# EAGLE library part 10053363-200LF (library ruark2)
64 (Power) Position Female Connector Non Specified - Dual Edge Gold 0.100" (2.54mm) Black
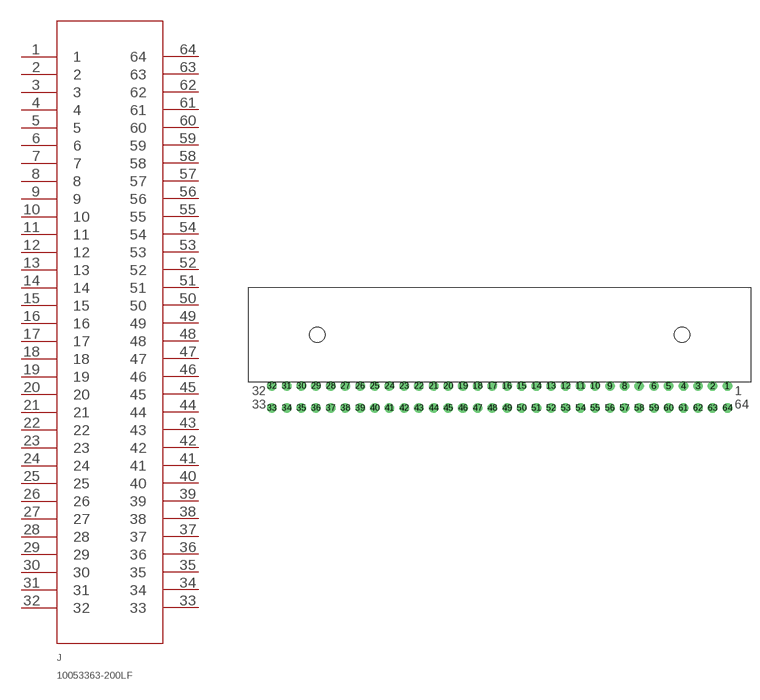
[diagram p97: symbol with the pads of 10053363-200LF; footprint 10053363-200LF]

Designator prefix J

## 10053363-200LF (PARTNO: 609-2861-ND)  [10053363-200LF]
1  1
2  2
3  3
4  4
5  5
6  6
7  7
8  8
9  9
10  10
11  11
12  12
13  13
14  14
15  15
16  16
17  17
18  18
19  19
20  20
21  21
22  22
23  23
24  24
25  25
26  26
27  27
28  28
29  29
30  30
31  31
32  32
33  33
34  34
35  35
36  36
37  37
38  38
39  39
40  40
41  41
42  42
43  43
44  44
45  45
46  46
47  47
48  48
49  49
50  50
51  51
52  52
53  53
54  54
55  55
56  56
57  57
58  58
59  59
60  60
61  61
62  62
63  63
64  64

## Footprint 10053363-200LF (pad centres in mm)
drill 1.1: 1 39.37,1.9; 2 36.83,1.9; 3 34.29,1.9; 4 31.75,1.9; 5 29.21,1.9; 6 26.67,1.9; 7 24.13,1.9; 8 21.59,1.9; 9 19.05,1.9; 10 16.51,1.9; 11 13.97,1.9; 12 11.43,1.9; 13 8.89,1.9; 14 6.35,1.9; 15 3.81,1.9; 16 1.27,1.9; 17 -1.27,1.9; 18 -3.81,1.9; 19 -6.35,1.9; 20 -8.89,1.9; 21 -11.43,1.9; 22 -13.97,1.9; 23 -16.51,1.9; 24 -19.05,1.9; 25 -21.59,1.9; 26 -24.13,1.9; 27 -26.67,1.9; 28 -29.21,1.9; 29 -31.75,1.9; 30 -34.29,1.9; 31 -36.83,1.9; 32 -39.37,1.9; 33 -39.37,-1.9; 34 -36.83,-1.9; 35 -34.29,-1.9; 36 -31.75,-1.9; 37 -29.21,-1.9; 38 -26.67,-1.9; 39 -24.13,-1.9; 40 -21.59,-1.9; 41 -19.05,-1.9; 42 -16.51,-1.9; 43 -13.97,-1.9; 44 -11.43,-1.9; 45 -8.89,-1.9; 46 -6.35,-1.9; 47 -3.81,-1.9; 48 -1.27,-1.9; 49 1.27,-1.9; 50 3.81,-1.9; 51 6.35,-1.9; 52 8.89,-1.9; 53 11.43,-1.9; 54 13.97,-1.9; 55 16.51,-1.9; 56 19.05,-1.9; 57 21.59,-1.9; 58 24.13,-1.9; 59 26.67,-1.9; 60 29.21,-1.9; 61 31.75,-1.9; 62 34.29,-1.9; 63 36.83,-1.9; 64 39.37,-1.9
hole 2.6 at -31.52,10.76
hole 2.6 at 31.52,10.76